# EAGLE library part M13 (library work)
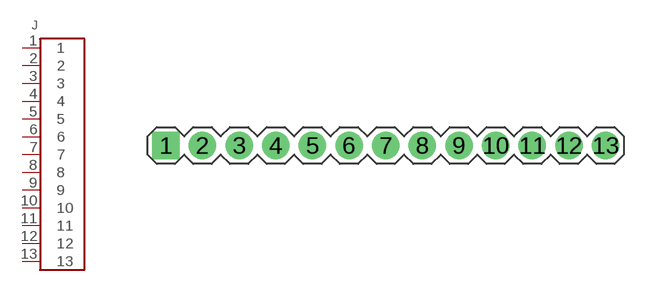
[diagram p17: symbol with the pads of M13; footprint M13]

Designator prefix J

## M13  [M13]
1  1
2  2
3  3
4  4
5  5
6  6
7  7
8  8
9  9
10  10
11  11
12  12
13  13

## Footprint M13 (pad centres in mm)
drill 1.016 pad 1.905 square: 1 -12.7,0
drill 1.016 pad 1.905: 2 -10.16,0; 3 -7.62,0; 4 -5.08,0; 5 -2.54,0; 6 0,0; 7 2.54,0; 8 5.08,0; 9 7.62,0; 10 10.16,0; 11 12.7,0; 12 15.24,0; 13 17.78,0